# EAGLE library part MAX3235 (library 000001)
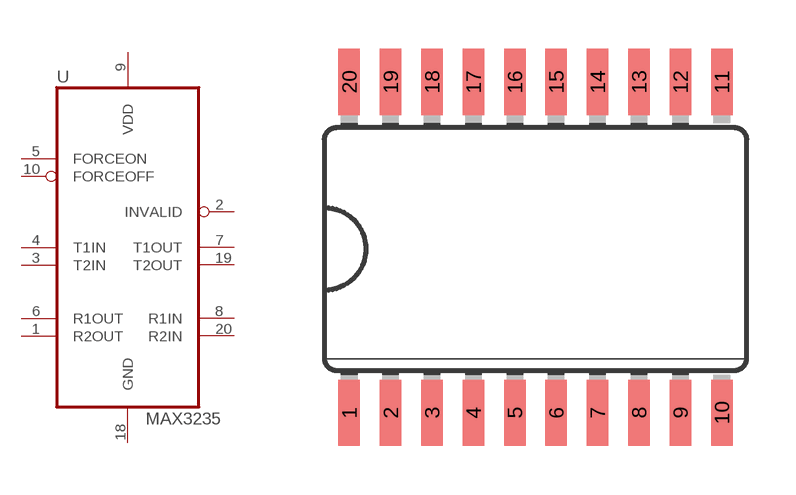
[diagram p68: symbol with the pads of SO20W; footprint SO20W]

Designator prefix -

## MAX3235  [SO20W]
1  R2OUT  out
2  INVALID  in
3  T2IN  in
4  T1IN  in
5  FORCEON  in
6  R1OUT  out
7  T1OUT  out
8  R1IN  in
9  VDD  pwr
10  FORCEOFF  in
18  GND  pwr
19  T2OUT  out
20  R2IN  in

## Footprint SO20W (pad centres in mm)
smd 0.66 x 2.032: 1 -5.715,-5.029; 2 -4.445,-5.029; 3 -3.175,-5.029; 4 -1.905,-5.029; 5 -0.635,-5.029; 6 0.635,-5.029; 7 1.905,-5.029; 8 3.175,-5.029; 9 4.445,-5.029; 10 5.715,-5.029; 11 5.715,5.131; 12 4.445,5.131; 13 3.175,5.131; 14 1.905,5.131; 15 0.635,5.131; 16 -0.635,5.131; 17 -1.905,5.131; 18 -3.175,5.131; 19 -4.445,5.131; 20 -5.715,5.131